# Altium footprint library InvertedF-FOOTPRINT.PcbLib: 1 footprints
Each footprint in its own frame and in the unit in brackets; x right, y up, seen from the top. Pads: shape width x height; smd on the part's side, far side on the other; paste and mask are expansions set on the pad; w line width, h text height; cw(c..) or ccw(c..) is an arc to the next point about the centre after c.
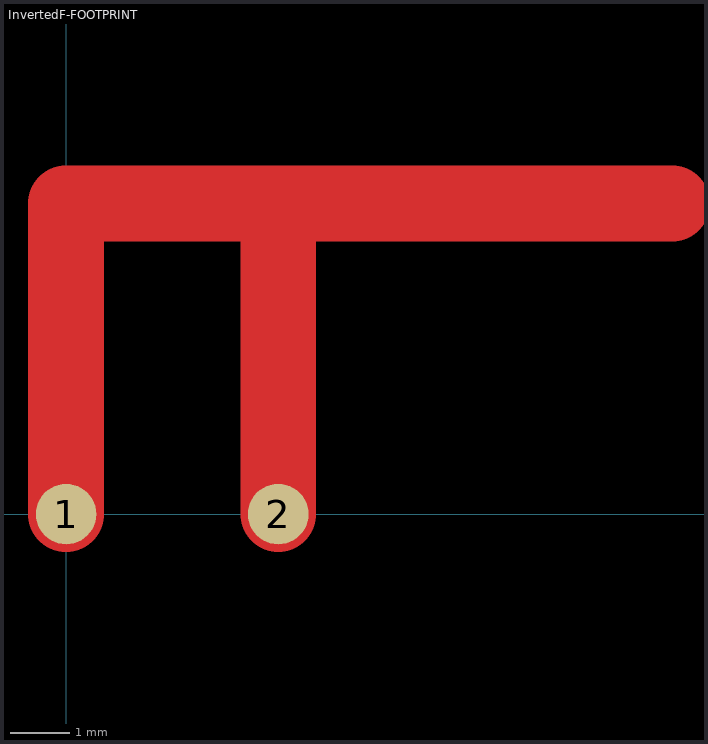
[diagram p0: the footprint, top view; thin cyan lines are the x and y axes]

## InvertedF-FOOTPRINT [mil]
pads (2):
  round 40 smd: 1(0,0) 2(140,0)
Top Layer:
  lines w50: 0,0 0,200 ; 0,205 400,205 ; 140,0 140,200